# EAGLE library part TPS22918 (library HAB)
TPS22918 5.5-V, 2-A, 52-mΩOn-Resistance Load Switch
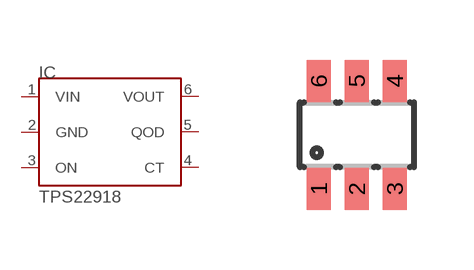
[diagram p19: symbol with the pads of SOT23-6L; footprint SOT23-6L]

Designator prefix IC

## TPS22918  [SOT23-6L]
1  VIN  pwr
2  GND  pwr
3  ON  in
4  CT  pas
5  QOD  pas
6  VOUT  pwr

## Footprint SOT23-6L (pad centres in mm)
Small Outline Transistor
smd 0.6 x 1.05: 1 -0.95,-1.35; 2 0,-1.35; 3 0.95,-1.35; 4 0.95,1.35; 5 0,1.35; 6 -0.95,1.35